# EAGLE library part TESEO-LIV3F (library TESEO-LIV3F)
Link: https://www.st.com/en/positioning/teseo-liv3f.html
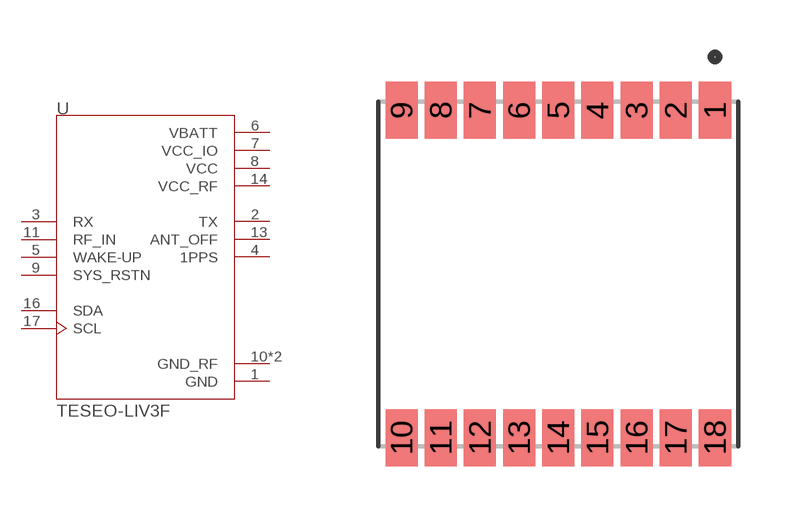
[diagram p0: symbol with the pads of TESEO-LIV3F; footprint TESEO-LIV3F]

Designator prefix U

## TESEO-LIV3F (Availability: Unavailable; Description: - RF Receiver BeiDou, Galileo, GLONASS, GNSS, GPS 1.575GHz -163dBm 18-LCC _9.7x10.1_; MF: STMicroelectronics; MP: TESEO-LIV3F; Package: SMD-18 STMicroelectronics; Price: None)  [TESEO-LIV3F]
1  GND  pwr
2  TX  out
3  RX  in
4  1PPS  out
5  WAKE-UP  in
6  VBATT  pwr
7  VCC_IO  pwr
8  VCC  pwr
9  SYS_RSTN  in
10  GND_RF  pwr
11  RF_IN  in
12  GND_RF  pwr
13  ANT_OFF  out
14  VCC_RF  pwr
16  SDA
17  SCL

## Footprint TESEO-LIV3F (pad centres in mm)
smd 0.9 x 1.6: 1 4.4,4.6; 2 3.3,4.6; 3 2.2,4.6; 4 1.1,4.6; 5 0,4.6; 6 -1.1,4.6; 7 -2.2,4.6; 8 -3.3,4.6; 9 -4.4,4.6; 10 -4.4,-4.6; 11 -3.3,-4.6; 12 -2.2,-4.6; 13 -1.1,-4.6; 14 0,-4.6; 15 1.1,-4.6; 16 2.2,-4.6; 17 3.3,-4.6; 18 4.4,-4.6